# Altium footprint library Key4X4_H6.PcbLib: 1 footprints
Each footprint in its own frame and in the unit in brackets; x right, y up, seen from the top. Pads: shape width x height; smd on the part's side, far side on the other; paste and mask are expansions set on the pad; w line width, h text height; cw(c..) or ccw(c..) is an arc to the next point about the centre after c.
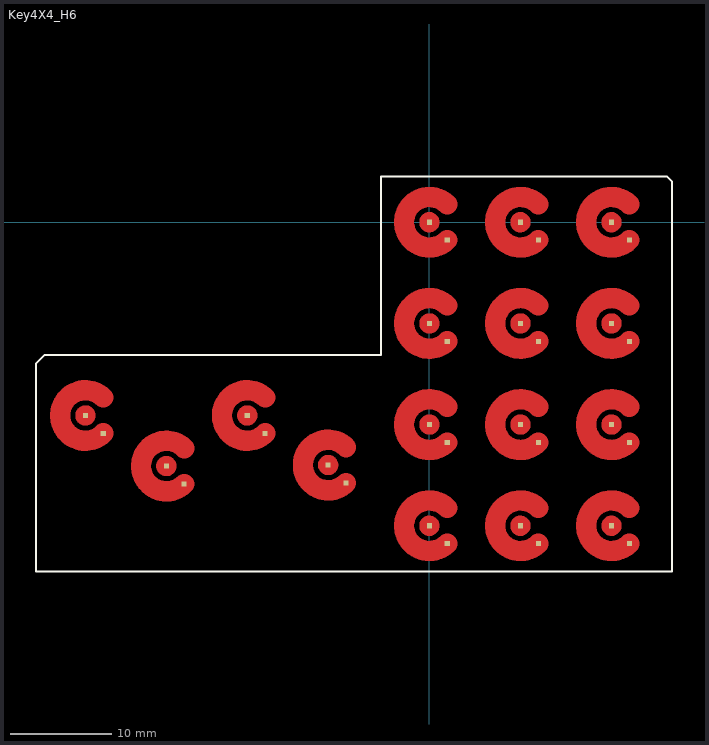
[diagram p0: the footprint, top view; thin cyan lines are the x and y axes]

## Key4X4_H6 [mm]
pads (32):
  rect 0.5x0.5 smd: 1(-32.232,-20.868) 1(-24.232,-25.868) 1(-16.232,-20.868) 1(-8.232,-25.768) 2(1.768,-31.768) 2(1.768,-21.768) 2(1.768,-11.768) 2(1.768,-1.768) 3(10.768,-31.768) 3(10.768,-21.768) 3(10.768,-11.768) 3(10.768,-1.768) 4(19.768,-31.768) 4(19.768,-21.768) 4(19.768,-11.768) 4(19.768,-1.768) 5(-34,-19.1) 5(0,0) 5(9,0) 5(18,0) 6(-26,-24.1) 6(0,-10) 6(9,-10) 6(18,-10) 7(-18,-19.1) 7(0,-20) 7(9,-20) 7(18,-20) 8(-10,-24) 8(0,-30) 8(9,-30) 8(18,-30)
Top Layer:
  circle w1: c-34,-19.1 r0.5
  circle w1: c0,0 r0.5
  circle w1: c9,0 r0.5
  circle w1: c18,0 r0.5
  circle w1: c18,-10 r0.5
  circle w1: c9,-10 r0.5
  circle w1: c0,-10 r0.5
  circle w1: c0,-20 r0.5
  circle w1: c9,-20 r0.5
  circle w1: c18,-20 r0.5
  circle w1: c0,-30 r0.5
  circle w1: c9,-30 r0.5
  circle w1: c18,-30 r0.5
  circle w1: c-10,-24 r0.5
  circle w1: c-18,-19.1 r0.5
  circle w1: c-26,-24.1 r0.5
  lines w2: -32.232,-20.868 cw(c-34,-19.1) -32.232,-17.332 ; -24.232,-25.868 cw(c-26,-24.1) -24.232,-22.332 ; -16.232,-20.868 cw(c-18,-19.1) -16.232,-17.332 ; -8.232,-25.768 cw(c-10,-24) -8.232,-22.232 ; 1.768,-31.768 cw(c0,-30) 1.768,-28.232 ; 1.768,-21.768 cw(c0,-20) 1.768,-18.232 ; 1.768,-11.768 cw(c0,-10) 1.768,-8.232 ; 1.768,-1.768 cw(c0,0) 1.768,1.768 ; 10.768,-31.768 cw(c9,-30) 10.768,-28.232 ; 10.768,-21.768 cw(c9,-20) 10.768,-18.232 ; 10.768,-11.768 cw(c9,-10) 10.768,-8.232 ; 10.768,-1.768 cw(c9,0) 10.768,1.768 ; 19.768,-31.768 cw(c18,-30) 19.768,-28.232 ; 19.768,-21.768 cw(c18,-20) 19.768,-18.232 ; 19.768,-11.768 cw(c18,-10) 19.768,-8.232 ; 19.768,-1.768 cw(c18,0) 19.768,1.768
Top Overlay:
  lines w0.2: 24,4 23.5,4.5 -4.8,4.5 -4.8,-13.1 -38,-13.1 -38.9,-14 -38.9,-34.5 24,-34.5 24,4 ; 24,4 24,4
Top Solder:
  circle w2: c-10,-24 r2.5
  circle w2: c0,0 r1
  circle w2: c0,0 r2.5
  circle w2: c9,0 r2.5
  circle w2: c9,0 r1
  circle w2: c18,0 r1
  circle w2: c18,0 r2.5
  circle w2: c18,-10 r2.5
  circle w2: c18,-10 r1
  circle w2: c9,-10 r1
  circle w2: c9,-10 r2.5
  circle w2: c0,-10 r2.5
  circle w2: c0,-10 r1
  circle w2: c0,-20 r1
  circle w2: c0,-20 r2.5
  circle w2: c9,-20 r2.5
  circle w2: c9,-20 r1
  circle w2: c18,-20 r1
  circle w2: c18,-20 r2.5
  circle w2: c0,-30 r1
  circle w2: c0,-30 r2.5
  circle w2: c9,-30 r2.5
  circle w2: c9,-30 r1
  circle w2: c18,-30 r1
  circle w2: c18,-30 r2.5
  circle w2: c-10,-24 r1
  circle w2: c-18,-19.1 r1
  circle w2: c-18,-19.1 r2.5
  circle w2: c-26,-24.1 r2.5
  circle w2: c-26,-24.1 r1
  circle w2: c-34,-19.1 r2.5
  circle w2: c-34,-19.1 r1